# Altium footprint library DIODE.PCBLIB: 59 footprints (part 4 of 4)
Each footprint in its own frame and in the unit in brackets; x right, y up, seen from the top. Pads: shape width x height; smd on the part's side, far side on the other; paste and mask are expansions set on the pad; w line width, h text height; cw(c..) or ccw(c..) is an arc to the next point about the centre after c.
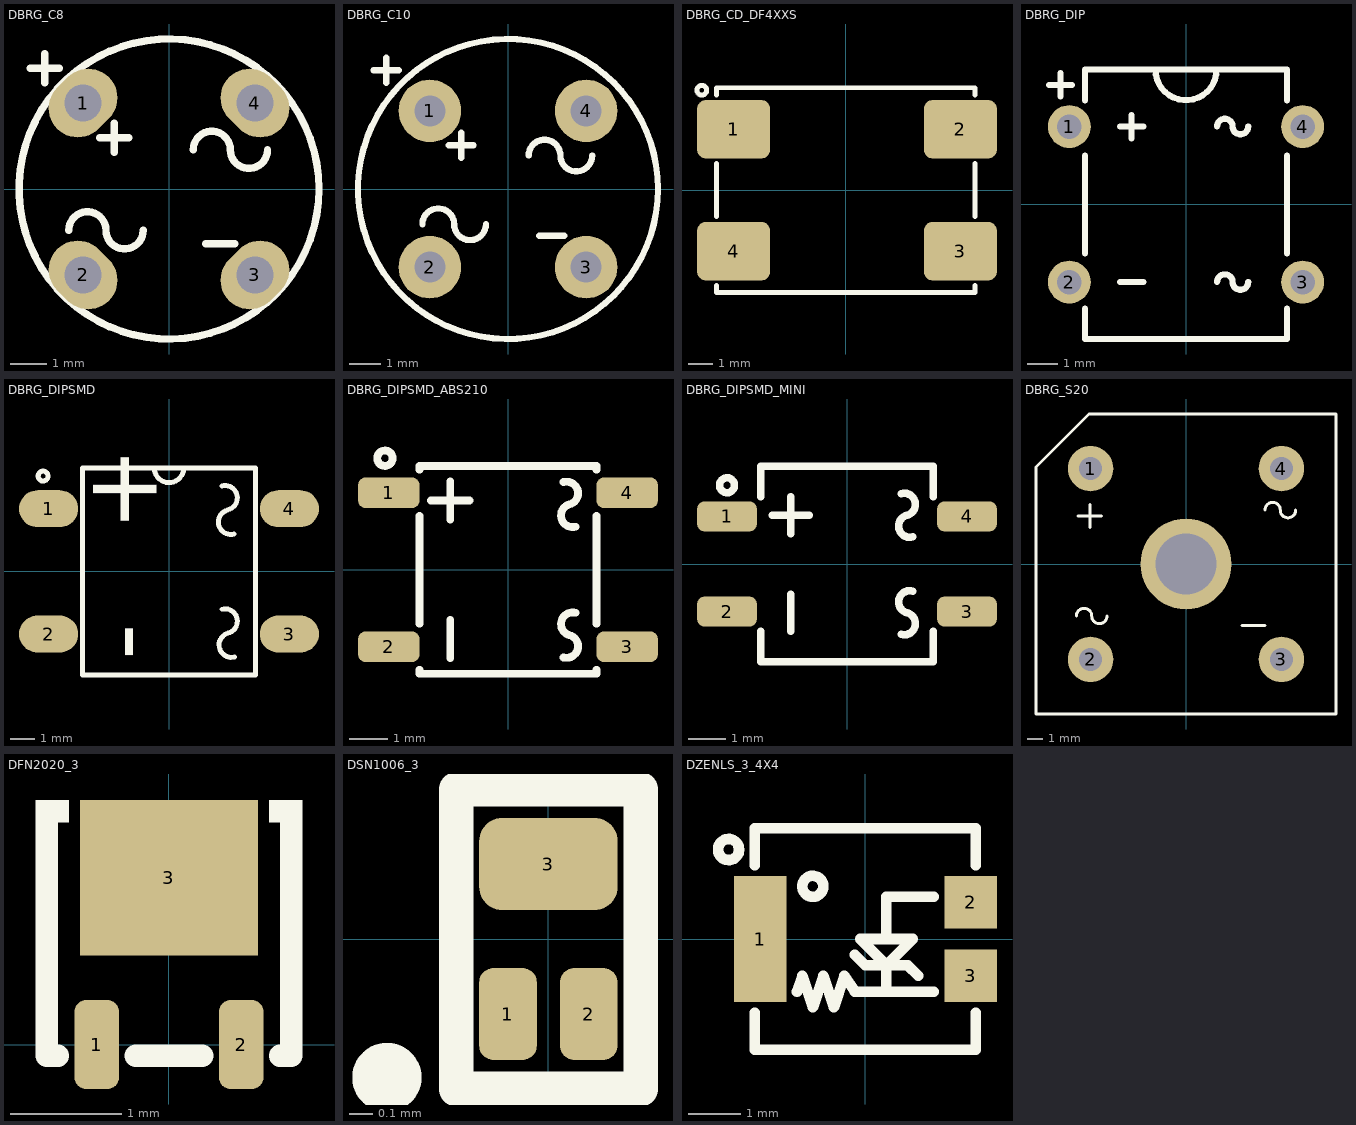
[diagram p3: the footprints below, top view; thin cyan lines are the x and y axes]

## DBRG_C8 [mm] "BRDIGE RECTIFIER, pitch: 4.7mm, 8X8mm"
height 5.1
pads (4):
  oval 1.6x2 hole 1 rot 135: 1(-2.35,2.35) 3(2.35,-2.35)
  oval 1.6x2 hole 1 rot 45: 2(-2.35,-2.35) 4(2.35,2.35)
Top Overlay:
  circle w0.2: c0,0 r4.1
  lines w0.2: -3.8,3.3 -3,3.3 ; -3.4,2.9 -3.4,3.7 ; -2.739,-1.129 cw(c-2.231,-1.129) -1.723,-1.129 ccw(c-1.215,-1.129) -0.707,-1.129 ; -1.9,1.4 -1.1,1.4 ; -1.5,1 -1.5,1.8 ; 0.661,1.071 cw(c1.169,1.071) 1.677,1.071 ccw(c2.185,1.071) 2.693,1.071 ; 1,-1.5 1.8,-1.5
3D body "bridge.STEP": height 5.21, standoff -1.9, extent -4.05,-4.05 4.05,4.05

## DBRG_C10 [mm] "BRDIGE RECTIFIER, WOB WOG, pitch: 5.08mm, 10X10mm"
pads (4):
  round 2 hole 1: 1(-2.5,2.5) 2(-2.5,-2.5) 3(2.5,-2.5) 4(2.5,2.5)
Top Overlay:
  circle w0.2: c0,0 r4.8
  lines w0.2: -4.3,3.8 -3.5,3.8 ; -3.9,3.4 -3.9,4.2 ; -2.739,-1.129 cw(c-2.231,-1.129) -1.723,-1.129 ccw(c-1.215,-1.129) -0.707,-1.129 ; -1.9,1.4 -1.1,1.4 ; -1.5,1 -1.5,1.8 ; 0.661,1.071 cw(c1.169,1.071) 1.677,1.071 ccw(c2.185,1.071) 2.693,1.071 ; 1,-1.5 1.8,-1.5
3D body "User Library-WOB-1.step": height 5.6, standoff -3.5, extent -4.65,-4.645 4.65,4.645

## DBRG_CD_DF4XXS [mm] "BRDIGE RECTIFIER, CD-DF4xxS, 10.5x8.1mm"
pads (4):
  rrect30% 3x2.4 smd paste-1.2: 1(-4.6,2.5) 2(4.7,2.5) 3(4.7,-2.5) 4(-4.6,-2.5)
Top Overlay:
  circle w0.2: c-5.9,4.1 r0.2
  lines w0.2: -5.3,-3.9 -5.3,-4.2 5.3,-4.2 5.3,-3.9 ; -5.3,3.9 -5.3,4.2 5.3,4.2 5.3,3.9 ; -5.296,-1.09 -5.296,1.09 ; 5.296,-1.09 5.296,1.09
Top Paste:
  region: -4.4,3.6 -3.5,3.6 -3.44,3.6 -3.33,3.554 -3.246,3.47 -3.2,3.36 -3.2,3.3 -3.2,1.7 -3.2,1.64 -3.246,1.53 -3.33,1.446 -3.44,1.4 -3.5,1.4 -4.4,1.4
  region: -4.8,3.6 -5.7,3.6 -5.76,3.6 -5.87,3.554 -5.954,3.47 -6,3.36 -6,3.3 -6,1.7 -6,1.64 -5.954,1.53 -5.87,1.446 -5.76,1.4 -5.7,1.4 -4.8,1.4
  region: -4.4,-3.6 -3.5,-3.6 -3.44,-3.6 -3.33,-3.554 -3.246,-3.47 -3.2,-3.36 -3.2,-3.3 -3.2,-1.7 -3.2,-1.64 -3.246,-1.53 -3.33,-1.446 -3.44,-1.4 -3.5,-1.4 -4.4,-1.4
  region: -4.8,-3.6 -5.7,-3.6 -5.76,-3.6 -5.87,-3.554 -5.954,-3.47 -6,-3.36 -6,-3.3 -6,-1.7 -6,-1.64 -5.954,-1.53 -5.87,-1.446 -5.76,-1.4 -5.7,-1.4 -4.8,-1.4
  region: 4.493,3.615 3.593,3.615 3.534,3.615 3.423,3.57 3.339,3.485 3.293,3.375 3.293,3.315 3.293,1.715 3.293,1.656 3.339,1.545 3.423,1.461 3.534,1.415 3.593,1.415 4.493,1.415
  region: 4.893,3.615 5.793,3.615 5.853,3.615 5.963,3.57 6.048,3.485 6.093,3.375 6.093,3.315 6.093,1.715 6.093,1.656 6.048,1.545 5.963,1.461 5.853,1.415 5.793,1.415 4.893,1.415
  region: 4.493,-3.585 3.593,-3.585 3.534,-3.585 3.423,-3.539 3.339,-3.455 3.293,-3.344 3.293,-3.285 3.293,-1.685 3.293,-1.625 3.339,-1.515 3.423,-1.43 3.534,-1.385 3.593,-1.385 4.493,-1.385
  region: 4.893,-3.585 5.793,-3.585 5.853,-3.585 5.963,-3.539 6.048,-3.455 6.093,-3.344 6.093,-3.285 6.093,-1.685 6.093,-1.625 6.048,-1.515 5.963,-1.43 5.853,-1.385 5.793,-1.385 4.893,-1.385
3D body "User Library-CD-DF410S.STEP": height 1.4, standoff 0, extent -5.25,-4.1 5.25,4.1

## DBRG_DIP [mm] "BRDIGE RECTIFIER, pitch: 5.08mm, 8X5mm"
pads (4):
  round 1.4 / inner round 1.4 / far side oct 2.2x1.4 hole 0.8: 1(-3.81,2.54)
  round 1.4 / inner round 1.4 / far side oval 2.2x1.4 hole 0.8: 2(-3.81,-2.54) 3(3.81,-2.54) 4(3.81,2.54)
Top Overlay:
  lines w0.2: -4.481,3.9 -3.719,3.9 ; -4.1,3.519 -4.1,4.281 ; -3.3,-3.4 -3.3,-4.4 3.3,-4.4 3.3,-3.4 ; -3.3,-1.6 -3.3,1.6 ; -3.3,3.4 -3.3,4.4 3.3,4.4 3.3,3.4 ; -2.159,-2.54 -1.397,-2.54 ; -2.159,2.54 -1.397,2.54 ; -1.778,2.159 -1.778,2.921 ; -1,4.4 ccw(c0,4.4) 1,4.4 ; 1.016,-2.54 cw(c1.27,-2.54) 1.524,-2.54 ccw(c1.778,-2.54) 2.032,-2.54 ; 1.016,2.54 cw(c1.27,2.54) 1.524,2.54 ccw(c1.778,2.54) 2.032,2.54 ; 3.3,-1.6 3.3,1.6
3D body "User Library-DFM_Bridge_Rectifier.step": height 4.05, standoff -3.35, extent -4,-4.255 4,4.255

## DBRG_DIPSMD [mm] "BRIDGE RECTIFIER, pitch: 5.08mm, 8X6mm, DB-S, DF005S"
pads (4):
  oval 2.4x1.5 smd: 1(-4.88,2.54) 2(-4.88,-2.54) 3(4.88,-2.54) 4(4.88,2.54)
Top Overlay:
  circle w0.2: c-5.102,3.864 r0.2
  lines w0.2: -0.6,4.2 ccw(c0,4.2) 0.599,4.175 ; 2.141,-1.534 cw(c2.271,-2.017) 2.4,-2.5 ccw(c2.529,-2.983) 2.659,-3.466 ; 2.141,3.466 cw(c2.271,2.983) 2.4,2.5 ; 2.371,2.483 ccw(c2.5,2) 2.629,1.517 ; -3.5,-4.2 -3.5,4.2 3.5,4.2 3.5,-4.2 -3.5,-4.2
  text "-" at -0.5,-3.6 h3
  text "+" at -0.5,1.6 h3
3D body "User Library-PONTE-1_DF_smt.STEP": height 2.7, standoff 0, extent -5.075,-4.05 5.075,4.05

## DBRG_DIPSMD_ABS210 [mm] "ABS, SOPA-4, pitch: 4mm, 5x4.4x1.4mm"
height 1.4
pads (4):
  rrect50% 1.6x0.8 smd paste-2539.97 mask+0.1: 1(-3.1,2) 2(-3.1,-2) 3(3.1,-2) 4(3.1,2)
Top Overlay:
  circle w0.2: c-3.2,2.9 r0.2
  lines w0.2: -2.3,-2.6 -2.3,-2.7 2.3,-2.7 2.3,-2.6 ; -2.3,-1.4 -2.3,1.4 ; -2.3,2.6 -2.3,2.7 2.3,2.7 2.3,2.6 ; -2,1.8 -1,1.8 ; -1.5,-2.3 -1.5,-1.3 ; -1.5,1.3 -1.5,2.3 ; 1.445,-2.28 ccw(c1.522,-1.99) 1.6,-1.7 cw(c1.678,-1.41) 1.755,-1.12 ; 1.445,2.28 cw(c1.522,1.99) 1.6,1.7 ccw(c1.678,1.41) 1.755,1.12 ; 2.3,-1.4 2.3,1.4
3D body "SON_S210-13_DIO.step": height 1.5, standoff 0, extent -3.404,-2.654 3.404,2.654

## DBRG_DIPSMD_MINI [mm] "MDB, MBS, TO-269AA, pitch:2.54mm, 4.8x3.8mm"
height 3
pads (4):
  rrect50% 1.6x0.8 smd: 1(-3.2,1.27) 2(-3.2,-1.27) 3(3.2,-1.27) 4(3.2,1.27)
Top Overlay:
  circle w0.2: c-3.2,2.1 r0.2
  lines w0.2: -2.3,-1.8 -2.3,-2.6 2.3,-2.6 2.3,-1.8 ; -2.3,1.8 -2.3,2.6 2.3,2.6 2.3,1.8 ; -2,1.3 -1,1.3 ; -1.5,-1.8 -1.5,-0.8 ; -1.5,0.8 -1.5,1.8 ; 1.445,-1.88 ccw(c1.522,-1.59) 1.6,-1.3 cw(c1.678,-1.01) 1.755,-0.72 ; 1.445,1.88 cw(c1.522,1.59) 1.6,1.3 ccw(c1.678,1.01) 1.755,0.72
3D body "User Library-TO-269AA_jam.step": height 2.8, standoff 0.1, extent -3.52,-2.475 3.52,2.475

## DBRG_S20 [mm] "BRIDGE RECTIFIER, pitch: 12.7mm, 20X20mm"
pads (5):
  round 3 hole 1.5: 1(-6.3,6.3) 2(-6.3,-6.3) 3(6.3,-6.3) 4(6.3,6.3)
  round 6 hole 4: ""(0,0)
Top Overlay:
  lines w0.2: -7.239,-3.429 cw(c-6.731,-3.429) -6.223,-3.429 ccw(c-5.715,-3.429) -5.207,-3.429 ; -7.112,3.175 -5.588,3.175 ; -6.35,2.413 -6.35,3.937 ; 3.683,-4.064 5.207,-4.064 ; 5.207,3.556 cw(c5.715,3.556) 6.223,3.556 ccw(c6.731,3.556) 7.239,3.556 ; -9.9,-9.9 9.9,-9.9 9.9,9.9 -6.4,9.9 -9.9,6.4 -9.9,-9.9
3D body "User Library-BR-8.step": height 7.5, standoff -3.5, extent -9.8,-9.8 9.8,9.8

## DFN2020_3 [mm] "DFN2020D-3, SOT1061D, Body 2X2X0.65mm,"
height 0.65
pads (3):
  rrect50% 0.4x0.8 smd mask+0.075: 1(-0.65,0) 2(0.65,0)
  rect 1.6x1.4 smd paste-0.1 mask+0.075: 3(0,1.5)
Top Overlay:
  rectangle: -1.2,2 -0.9,2.2
  region: 1.2,2.2 0.9,2.2 0.9,2 1.2,2
  lines w0.2: -1.1,2.1 -1.1,-0.1 -1,-0.1 ; -0.3,-0.1 0.3,-0.1 ; 1,-0.1 1.1,-0.1 1.1,2.1
3D body "User Library-SOT1061.step": height 0.65, standoff 0, extent -1,0 1,2.002

## DSN1006_3 [mm] "X2-DSN1006-3, SOD883, 1X0.6X0.35mm"
height 0.35
pads (3):
  rrect50% 0.25x0.4 smd paste-0.025 mask+0.05: 1(-0.175,-0.325) 2(0.175,-0.325)
  rrect50% 0.6x0.4 smd paste-0.05 mask+0.05: 3(0,0.325)
Top Overlay:
  circle w0.2: c-0.7,-0.6 r0.05
  lines w0.15: -0.4,-0.65 0.4,-0.65 0.4,0.65 -0.4,0.65 -0.4,-0.65
3D body "X1-DFN1006-3.stp": height 0.5, standoff 0, extent -0.3,-0.5 0.3,0.5

## DZENLS_3_4X4 [mm]
pads (3):
  rect 1x2.4 smd mask+0.1: 1(-2,0)
  rect 1x1 smd mask+0.1: 2(2,0.7) 3(2,-0.7)
Top Overlay:
  circle w0.2: c-1,1 r0.2
  circle w0.2: c-2.6,1.7 r0.2
  lines w0.2: -2.1,-1.4 -2.1,-2.1 2.1,-2.1 2.1,-1.4 ; -2.1,1.4 -2.1,2.1 2.1,2.1 2.1,1.4 ; -1.3,-1 -1.2,-0.7 -1,-1.3 -0.8,-0.7 -0.6,-1.3 -0.4,-0.7 -0.2,-1 0.4,-1 ; -0.2,-0.3 0,-0.5 0.8,-0.5 1,-0.7 ; 0.4,0 0.4,0.8 1.3,0.8 ; 1.3,-1 0.4,-1 ; 0.4,-1 0.4,-0.5 ; 0.4,-0.5 0.9,0 -0.1,0 0.4,-0.5 ; 0.5,-0.5 0.5,-0.5
3D body: height 2, standoff 0, extent -2,-2 2,2